# EAGLE library part ESB33133 (library logick)
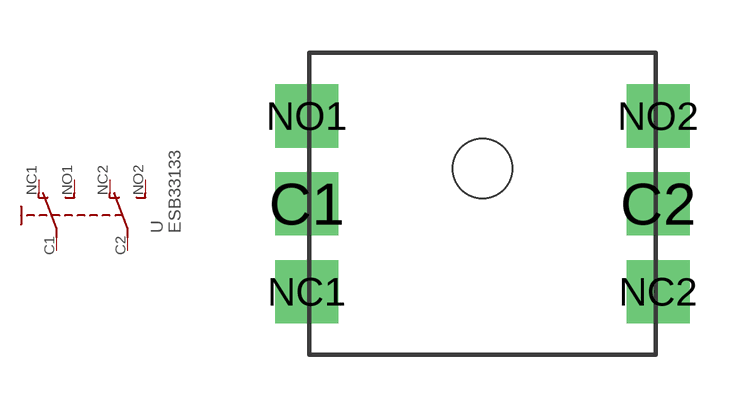
[diagram p8: symbol with the pads of ESB33133; footprint ESB33133]

Designator prefix -

## ESB33133  [ESB33133]
C1  P  pas
C2  P1  pas
NC1  O  pas
NC2  O1  pas
NO1  S  pas
NO2  S1  pas

## Footprint ESB33133 (pad centres in mm)
drill 1.2 square: C1 -5,0; C2 5,0; NC1 -5,-2.5; NC2 5,-2.5; NO1 -5,2.5; NO2 5,2.5
hole 1.7 at 0,1